# EAGLE library part 691701310008B (library Eagle_WR-TBL Pluggable Connector (rev21a))
WR-TBL Serie 7013B - 3.81 mm Vertical PCB Header THR Type KIND PROPERTIES Pitch 3.81 mm MATERIAL PROPERTIES Insulator Material LCP Insulator Flammability Rating UL94 V-0 Contact Material Brass Contact Plating Tin GENERAL INFORMATION Operating Temperature -40 up to +105 °C Compliance RoHS ELECTRICAL PROPERTIES IR cULus 10 A Working Voltage [cULus] 300 V (AC) Withstanding Voltage [cULus] 2500 V (AC) Contact Resistance [cULus] 20 mΩ CERTIFICATION cULus Approval E315414 <https://www.we-online.com/catalog/media/o33328v209%20Family_WR-TBL_6917013100xxB.jpg> Details see: https://www.we-online.com/catalog/en/TBL_3_81_THR_7013B_VERTICAL_PCB_HEADER_6917013100XXB/ Updated by Ella Wu 2019-12-24 2019(C) Wurth Elektronik
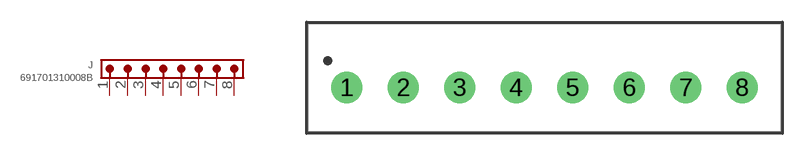
[diagram p101: symbol with the pads of 691701310008B; footprint 691701310008B]

Designator prefix J

## 691701310008B (DATASHEET-URL: https://www.we-online.com/catalog/datasheet/691701310008B.pdf; IR-UL: 10A; MOUNT: THT; PART-NUMBER: 691701310008B; PINS: 8; PITCH: 3.81mm; TYPE: Vertical; VALUE: 691701310008B; WORKING-VOLTAGE-UL: 300V (AC))  [691701310008B]
1  1  pas
2  2  pas
3  3  pas
4  4  pas
5  5  pas
6  6  pas
7  7  pas
8  8  pas

## Footprint 691701310008B (pad centres in mm)
WR-TBL Serie 7013B - 3.81 mm Vertical PCB Header THR Type Max Height = 9.2mm , Pitch 3.81mm , 8pins
drill 1.4: 1 -13.335,0; 2 -9.525,0; 3 -5.715,0; 4 -1.905,0; 5 1.905,0; 6 5.715,0; 7 9.525,0; 8 13.335,0